# EAGLE library part M74HC4050RM13TR (library ST Microelectronics)
HEX BUFFER/CONVERTER
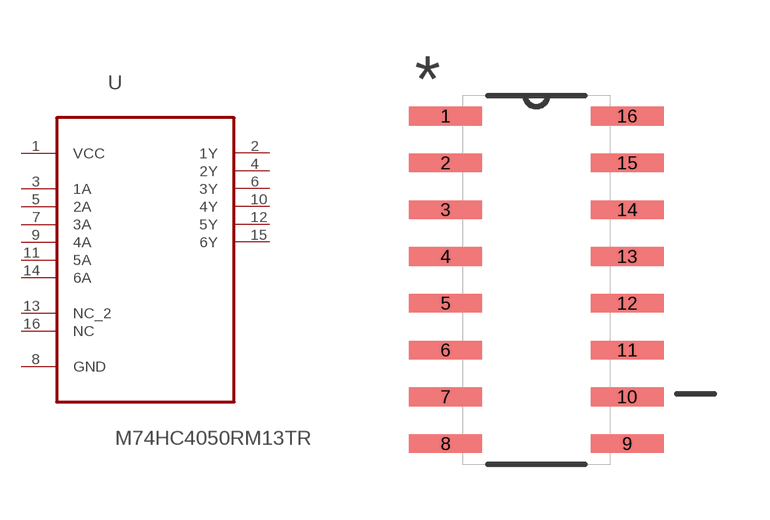
[diagram p235: symbol with the pads of SOIC127P600X175-16N; footprint SOIC127P600X175-16N]

Designator prefix U

## M74HC4050RM13TR (MPN: M74HC4050RM13TR; OC_FARNELL: 1261257; OC_NEWARK: 89K0905; PACKAGE: SOIC-16; SUPPLIER: STMICROELECTRONICS)  [SOIC127P600X175-16N]
1  VCC  pwr
2  1Y  out
3  1A  in
4  2Y  out
5  2A  in
6  3Y  out
7  3A  in
8  GND  pas
9  4A  in
10  4Y  out
11  5A  in
12  5Y  out
13  NC_2  nc
14  6A  in
15  6Y  out
16  NC  nc

## Footprint SOIC127P600X175-16N (pad centres in mm)
smd 1.981 x 0.508: 1 -2.464,4.445; 2 -2.464,3.175; 3 -2.464,1.905; 4 -2.464,0.635; 5 -2.464,-0.635; 6 -2.464,-1.905; 7 -2.464,-3.175; 8 -2.464,-4.445; 9 2.464,-4.445; 10 2.464,-3.175; 11 2.464,-1.905; 12 2.464,-0.635; 13 2.464,0.635; 14 2.464,1.905; 15 2.464,3.175; 16 2.464,4.445